# Altium schematic symbol library AOZ1360AIL.SchLib: 2 symbols
Pins are listed as number, name and electrical type; pins without a type are passive.

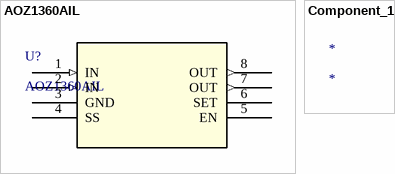
[diagram p0: symbols AOZ1360AIL to Component_1]

## AOZ1360AIL
designator U?
No Description Available; Mfr_Name: Alpha and Omega Semiconductor; Copyright: Copyright (C) 2024 Ultra Librarian. All rights reserved.; Manufacturer_Part_Number: AOZ1360AIL; RefDes: RefDes; Type: DEV
footprint AOZ1360AIL_AOS
pins: 1 IN (in), 2 IN (in), 3 GND (power), 4 SS, 5 EN, 6 SET, 7 OUT (out), 8 OUT (out)

## Component_1
designator *